# Altium footprint library A1162LLETRT.PcbLib: 1 footprints
Each footprint in its own frame and in the unit in brackets; x right, y up, seen from the top. Pads: shape width x height; smd on the part's side, far side on the other; paste and mask are expansions set on the pad; w line width, h text height; cw(c..) or ccw(c..) is an arc to the next point about the centre after c.
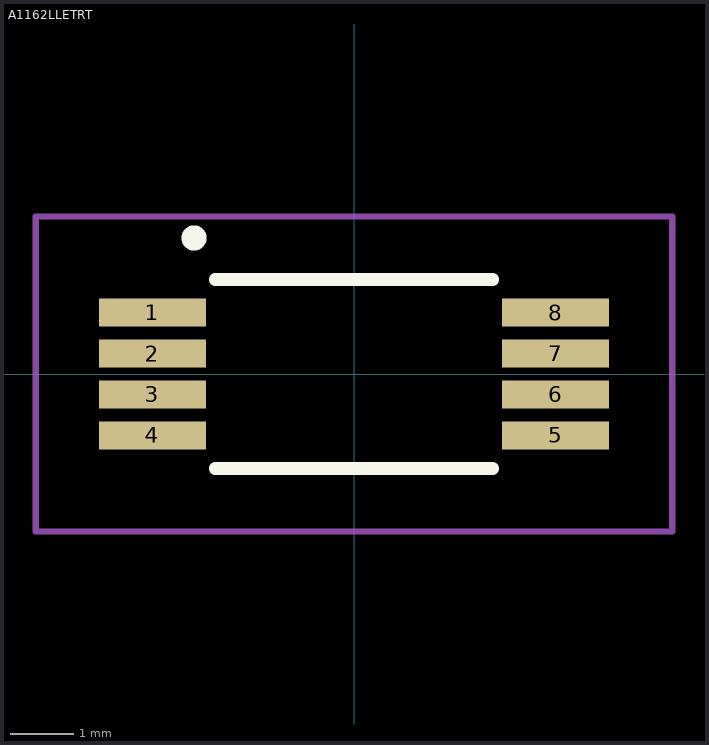
[diagram p0: the footprint, top view; thin cyan lines are the x and y axes]

## A1162LLETRT [mm]
pads (8):
  rect 1.7x0.45 smd: 1(-3.2,0.975) 2(-3.2,0.325) 3(-3.2,-0.325) 4(-3.2,-0.975) 5(3.2,-0.975) 6(3.2,-0.325) 7(3.2,0.325) 8(3.2,0.975)
Top Overlay:
  circle w0.254: c-2.54,2.159 r0.073
  lines w0.2: -2.2,-1.5 2.2,-1.5 ; -2.2,1.5 2.2,1.5
Mechanical 15:
  lines w0.1: -2.2,-1.5 2.2,-1.5 ; -2.2,1.5 2.2,1.5
Mechanical 20:
  lines w0.1: -5.05,-2.5 5.05,-2.5 5.05,2.5 -5.05,2.5 -5.05,-2.5
3D body "8-TSSOP.stp": height 1.06, standoff -0.04, extent -3.337,-1.5 3.084,1.5